# EAGLE library part BD6211F (library systas0)
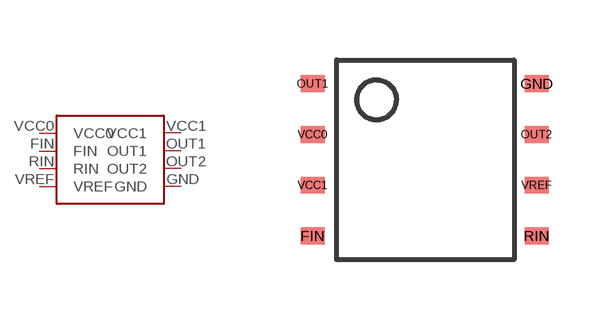
[diagram p2: symbol with the pads of BD6211F; footprint BD6211F]

Designator prefix -

## BD6211F  [BD6211F]
FIN  FIN
GND  GND
OUT1  OUT1
OUT2  OUT2
RIN  RIN
VCC0  VCC0
VCC1  VCC1
VREF  VREF

## Footprint BD6211F (pad centres in mm)
smd 0.6 x 0.42: FIN -0.6,0.595; GND 5,4.405; OUT1 -0.6,4.405; OUT2 5,3.135; RIN 5,0.595; VCC0 -0.6,3.135; VCC1 -0.6,1.865; VREF 5,1.865